# EAGLE library part SI570 (library Public)
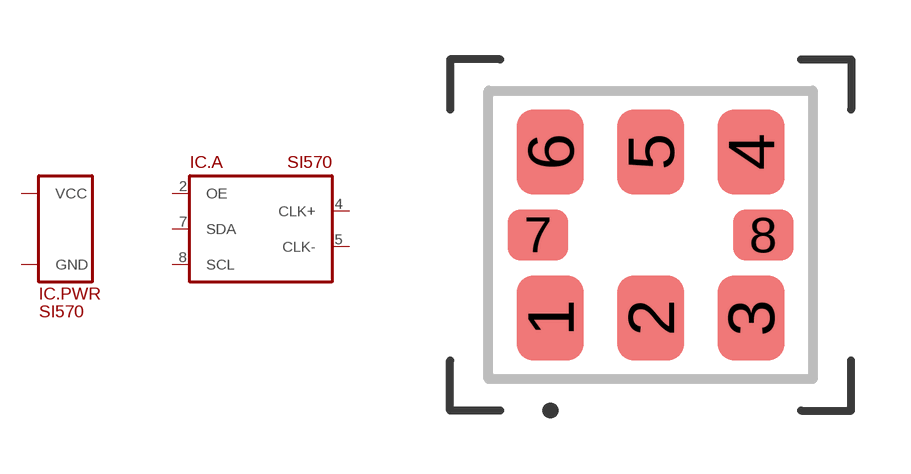
[diagram p155: symbol with the pads of SI57X; footprint SI57X]

Designator prefix IC; gates .PWR=SUPPLY_VCC/GND .A=SI570

## SI570  [SI57X]
2  .A:OE
3  .PWR:GND
4  .A:CLK+
5  .A:CLK-
6  .PWR:VCC
7  .A:SDA
8  .A:SCL

## Footprint SI57X (pad centres in mm)
smd 1.7 x 2.15: 1 -2.54,-2.1; 2 0,-2.1; 3 2.54,-2.1; 4 2.54,2.1; 5 0,2.1; 6 -2.54,2.1
smd 1.545 x 1.3: 7 -2.853,0; 8 2.853,0